# EAGLE library part BMA423 (library BMA423)
Accelerometers Triaxial low-g 12bit Acceleration Sensor Source: Datasheet <https://www.mouser.com/datasheet/2/783/BST-BMA423-DS000-1509600.pdf>
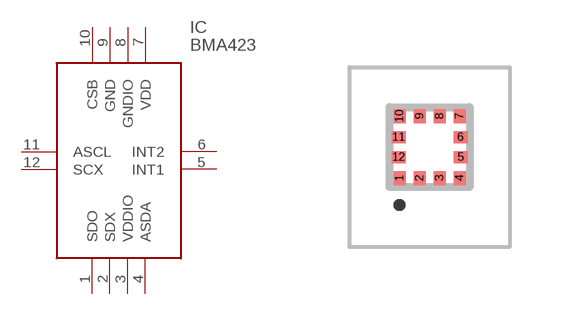
[diagram p0: symbol with the pads of BMA423; footprint BMA423]

Designator prefix IC

## BMA423 (Arrow_Part_Number: BMA423; Arrow_Price-Stock: https://www.arrow.com/en/products/bma423/bosch; Description: Accelerometers Triaxial low-g 12bit Acceleration Sensor; Height: 1mm; Manufacturer_Name: BOSCH; Manufacturer_Part_Number: BMA423; Mouser_Part_Number: 262-BMA423; Mouser_Price-Stock: https://www.mouser.co.uk/ProductDetail/Bosch-Sensortec/BMA423?qs=HXFqYaX1Q2xC%252BSgeGoX3mg%3D%3D)  [BMA423]
1  SDO
2  SDX
3  VDDIO
4  ASDA
5  INT1
6  INT2
7  VDD
8  GNDIO
9  GND
10  CSB
11  ASCL
12  SCX

## Footprint BMA423 (pad centres in mm)
BMA423-1
smd 0.3 x 0.35: 1 -0.75,-0.775; 2 -0.25,-0.775; 3 0.25,-0.775; 4 0.75,-0.775; 7 0.75,0.775; 8 0.25,0.775; 9 -0.25,0.775; 10 -0.75,0.775
smd 0.35 x 0.3: 5 0.775,-0.25; 6 0.775,0.25; 11 -0.775,0.25; 12 -0.775,-0.25